# EAGLE library part SSW-106-02-S-Q (library con-samtec)
THROUGH-HOLE .025" SQ POST SOCKET Source: Samtec SSW.pdf
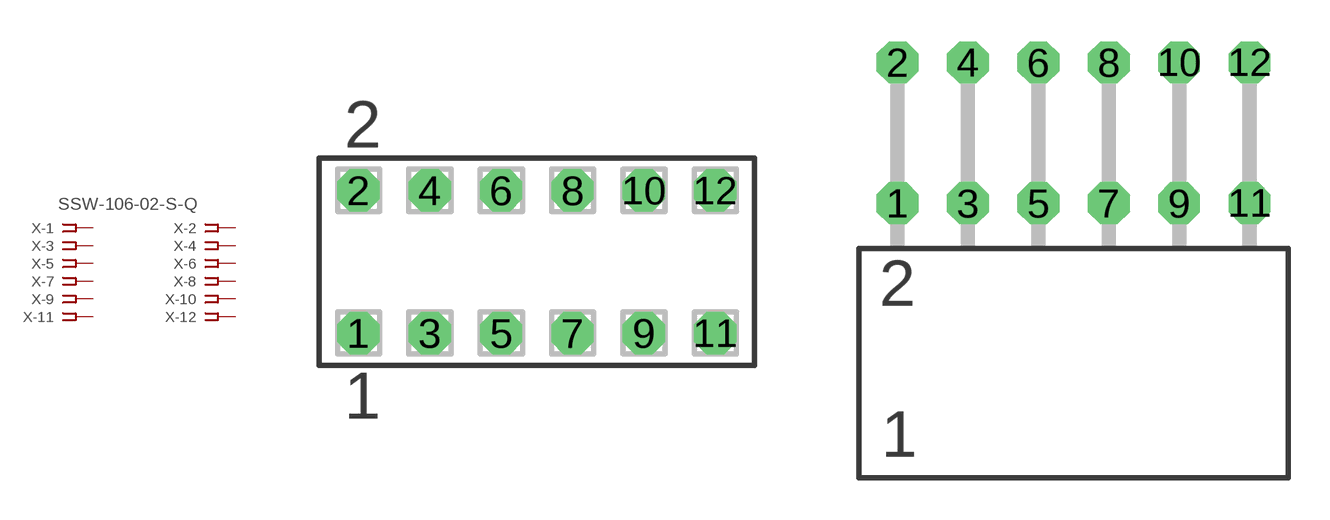
[diagram p142: symbol with the pads of SSW-106-02-S-Q; footprints SSW-106-02-S-Q, SSW-106-02-S-Q-RA]

Designator prefix X; gates -1=FPINV -2=FPIN -3=FPIN -4=FPIN -5=FPIN -6=FPIN -7=FPIN -8=FPIN -9=FPIN -10=FPIN -11=FPIN -12=FPIN

## SSW-106-02-S-Q (MPN: SSW-106-02-S-Q; OC_FARNELL: unknown; OC_NEWARK: 82P3410)  [SSW-106-02-S-Q]
1  -1:1  pas
2  -2:1  pas
3  -3:1  pas
4  -4:1  pas
5  -5:1  pas
6  -6:1  pas
7  -7:1  pas
8  -8:1  pas
9  -9:1  pas
10  -10:1  pas
11  -11:1  pas
12  -12:1  pas

## SSW-106-02-S-QRA (MPN: SSW-106-02-S-Q-RA; OC_FARNELL: unknown; OC_NEWARK: 82P3411)  [SSW-106-02-S-Q-RA]
Pads as for SSW-106-02-S-Q

## Footprint SSW-106-02-S-Q (pad centres in mm)
THROUGH-HOLE .025" SQ POST SOCKET Source: Samtec SSW.pdf
drill 1 pad 1.5 octagon: 1 -6.35,-2.54; 2 -6.35,2.54; 3 -3.81,-2.54; 4 -3.81,2.54; 5 -1.27,-2.54; 6 -1.27,2.54; 7 1.27,-2.54; 8 1.27,2.54; 9 3.81,-2.54; 10 3.81,2.54; 11 6.35,-2.54; 12 6.35,2.54

## Footprint SSW-106-02-S-Q-RA (pad centres in mm)
THROUGH-HOLE .025" SQ POST SOCKET Source: Samtec SSW.pdf
drill 1 pad 1.5 octagon: 1 -6.35,1.524; 2 -6.35,6.604; 3 -3.81,1.524; 4 -3.81,6.604; 5 -1.27,1.524; 6 -1.27,6.604; 7 1.27,1.524; 8 1.27,6.604; 9 3.81,1.524; 10 3.81,6.604; 11 6.35,1.524; 12 6.35,6.604